# EAGLE library part 10POS-*MM-? (library con-wurth-board-header)
Wurth Elektronik WR-BHD Male Box Headers ;
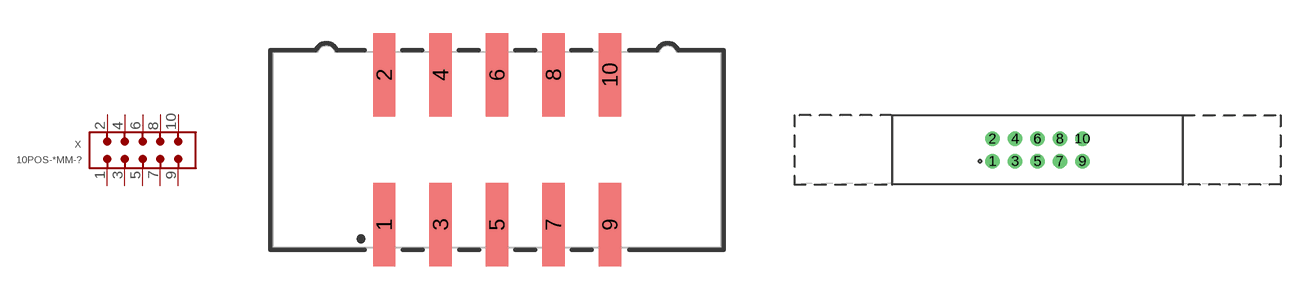
[diagram p220: symbol with the pads of 61201020621; footprints 61201020621, 62501022021]

Designator prefix X

## 10POS-2.54MM-61201020621 (CONTACT-RESISTANCE: 20mOhm; DATASHEET-URL: https://www.we-online.com/redexpert/spec/61201020621?ae; GENDER: Male; IR: 3A; LENGTH: 20.5mm; MOUNT: SMT; PACKAGING: Tube; PART-NUMBER: 61201020621; PINS: 10; PITCH: 2.54 mm; TYPE: Straight; VALUE: 61201020621; WORKING-VOLTAGE: 250V(AC))  [61201020621]
1  1  pas
2  2  pas
3  3  pas
4  4  pas
5  5  pas
6  6  pas
7  7  pas
8  8  pas
9  9  pas
10  10  pas

## 10POS-2.00MM-62501022021 (CONTACT-RESISTANCE: 20mOhm; DATASHEET-URL: https://www.we-online.com/redexpert/spec/62501022021?ae; GENDER: Male; IR: 2A; LENGTH: 25.7mm; MOUNT: THT; PACKAGING: Tray; PART-NUMBER: 62501022021; PINS: 10; PITCH: 2.00 mm; TYPE: Straight; VALUE: 62501022021; WORKING-VOLTAGE: 250V(AC))  [62501022021]
Pads as for 61201020621

## 10POS-1.27MM-62701021721 (CONTACT-RESISTANCE: 20mOhm; DATASHEET-URL: https://www.we-online.com/redexpert/spec/62701021721?ae; GENDER: Male; IR: 1A; LENGTH: 12.7mm; MOUNT: THT; PART-NUMBER: 62701021721; PINS: 10; PITCH: 1.27mm; TYPE: Angled; VALUE: 62701021721; WORKING-VOLTAGE: 50V(AC))  [62701021721]
Pads as for 61201020621

## 10POS-2.54MM-61201022323 (CONTACT-RESISTANCE: 20mOhm; DATASHEET-URL: https://www.we-online.com/redexpert/spec/61201022323?ae; GENDER: Transition; IR: 1A; LENGTH: 18.15mm; MOUNT: THT; PACKAGING: Tray; PART-NUMBER: 61201022323; PINS: 10; PITCH: 2.54 mm; TYPE: Straight; VALUE: 61201022323; WORKING-VOLTAGE: 250V(AC))  [61201022323]
Pads as for 61201020621

## 10POS-2.54MM-612010235121 (CONTACT-RESISTANCE: 20mOhm; DATASHEET-URL: https://www.we-online.com/redexpert/spec/612010235121?ae; GENDER: Male; IR: 3A; LENGTH: 20.3mm; MOUNT: THT; PACKAGING: Tray; PART-NUMBER: 612010235121; PINS: 10; PITCH: 2.54 mm; TYPE: Straight; VALUE: 612010235121; WORKING-VOLTAGE: 250V(AC))  [612010235121]
Pads as for 61201020621

## 10POS-2.54MM-61201022821 (CONTACT-RESISTANCE: 20mOhm; DATASHEET-URL: https://www.we-online.com/redexpert/spec/61201022821?ae; GENDER: Male; IR: 3A; LENGTH: 32.2mm; MOUNT: THT; PACKAGING: Tray; PART-NUMBER: 61201022821; PINS: 10; PITCH: 2.54 mm; TYPE: Straight; VALUE: 61201022821; WORKING-VOLTAGE: 250V(AC))  [61201022821]
Pads as for 61201020621

## 10POS-2.54MM-612010235221 (CONTACT-RESISTANCE: 20mOhm; DATASHEET-URL: https://www.we-online.com/redexpert/spec/612010235221?ae; GENDER: Male; IR: 3A; LENGTH: 20.3mm; MOUNT: THT; PACKAGING: Tray; PART-NUMBER: 612010235221; PINS: 10; PITCH: 2.54 mm; TYPE: Angled; VALUE: 612010235221; WORKING-VOLTAGE: 250V(AC))  [612010235221]
Pads as for 61201020621

## 10POS-2.00MM-62501022121 (CONTACT-RESISTANCE: 20mOhm; DATASHEET-URL: https://www.we-online.com/redexpert/spec/62501022121?ae; GENDER: Male; IR: 2A; LENGTH: 25.7 mm; MOUNT: THT; PACKAGING: Tray; PART-NUMBER: 62501022121; PINS: 10; PITCH: 2.00 mm; TYPE: Angled; VALUE: 62501022121; WORKING-VOLTAGE: 250V(AC))  [62501022121]
Pads as for 61201020621

## 10POS-2.54MM-61201022021 (CONTACT-RESISTANCE: 20mOhm; DATASHEET-URL: https://www.we-online.com/redexpert/spec/61201022021?ae; GENDER: Male; IR: 3A; LENGTH: 32.2mm; MOUNT: THT; PACKAGING: Tray; PART-NUMBER: 61201022021; PINS: 10; PITCH: 2.54 mm; TYPE: Straight; VALUE: 61201022021; WORKING-VOLTAGE: 250V(AC))  [61201022021]
Pads as for 61201020621

## 10POS-2.00MM-62501021621 (CONTACT-RESISTANCE: 20mOhm; DATASHEET-URL: https://www.we-online.com/redexpert/spec/62501021621?ae; GENDER: Male; IR: 2A; LENGTH: 17.2mm; MOUNT: THT; PACKAGING: Tray; PART-NUMBER: 62501021621; PINS: 10; PITCH: 2.00 mm; TYPE: Straight; VALUE: 62501021621; WORKING-VOLTAGE: 250V(AC))  [62501021621]
Pads as for 61201020621

## 10POS-2.54MM-61201022921 (CONTACT-RESISTANCE: 20mOhm; DATASHEET-URL: https://www.we-online.com/redexpert/spec/61201022921?ae; GENDER: Male; IR: 3A; LENGTH: 32.2mm; MOUNT: THT; PACKAGING: Tray; PART-NUMBER: 61201022921; PINS: 10; PITCH: 2.54 mm; TYPE: Angled; VALUE: 61201022921; WORKING-VOLTAGE: 250V(AC))  [61201022921]
Pads as for 61201020621

## 10POS-2.54MM-61201021621 (CONTACT-RESISTANCE: 20mOhm; DATASHEET-URL: https://www.we-online.com/redexpert/spec/61201021621?ae; GENDER: Male; IR: 3A; LENGTH: 20.36mm; MOUNT: THT; PACKAGING: Tray; PART-NUMBER: 61201021621; PINS: 10; PITCH: 2.54 mm; TYPE: Straight; VALUE: 61201021621; WORKING-VOLTAGE: 250V(AC))  [61201021621]
Pads as for 61201020621

## 10POS-1.27MM-62701021621 (CONTACT-RESISTANCE: 20mOhm; DATASHEET-URL: https://www.we-online.com/redexpert/spec/62701021621?ae; GENDER: Male; IR: 1A; LENGTH: 12.7mm; MOUNT: THT; PART-NUMBER: 62701021621; PINS: 10; PITCH: 1.27mm; TYPE: Straight; VALUE: 62701021621; WORKING-VOLTAGE: 50V(AC))  [62701021621]
Pads as for 61201020621

## 10POS-2.00MM-62501022323 (CONTACT-RESISTANCE: 20mOhm; DATASHEET-URL: https://www.we-online.com/redexpert/spec/62501022323?ae; GENDER: Transition; IR: 1A; LENGTH: 14.1mm; MOUNT: THT; PACKAGING: Tray; PART-NUMBER: 62501022323; PINS: 10; PITCH: 2.00 mm; TYPE: Straight; VALUE: 62501022323; WORKING-VOLTAGE: 250V(AC))  [62501022323]
Pads as for 61201020621

## 10POS-1.27MM-62701020621 (CONTACT-RESISTANCE: 20mOhm; DATASHEET-URL: https://www.we-online.com/redexpert/spec/62701020621?ae; GENDER: Male; IR: 1A; LENGTH: 12.7mm; MOUNT: SMT; PART-NUMBER: 62701020621; PINS: 10; PITCH: 1.27mm; TYPE: Straight; VALUE: 62701020621; WORKING-VOLTAGE: 50V(AC))  [62701020621]
Pads as for 61201020621

## 10POS-2.00MM-62501021721 (CONTACT-RESISTANCE: 20mOhm; DATASHEET-URL: https://www.we-online.com/redexpert/spec/62501021721?ae; GENDER: Male; IR: 2A; LENGTH: 17.25mm; MOUNT: THT; PACKAGING: Tray; PART-NUMBER: 62501021721; PINS: 10; PITCH: 2.00 mm; TYPE: Angled; VALUE: 62501021721; WORKING-VOLTAGE: 250V(AC))  [62501021721]
Pads as for 61201020621

## 10POS-2.54MM-61201022121 (CONTACT-RESISTANCE: 20mOhm; DATASHEET-URL: https://www.we-online.com/redexpert/spec/61201022121?ae; GENDER: Male; IR: 3A; LENGTH: 32.2mm; MOUNT: THT; PACKAGING: Tray; PART-NUMBER: 61201022121; PINS: 10; PITCH: 2.54 mm; TYPE: Angled; VALUE: 61201022121; WORKING-VOLTAGE: 250V(AC))  [61201022121]
Pads as for 61201020621

## 10POS-2.54MM-61201021721 (CONTACT-RESISTANCE: 20mOhm; DATASHEET-URL: https://www.we-online.com/redexpert/spec/61201021721?ae; GENDER: Male; IR: 3A; LENGTH: 25.44mm; MOUNT: THT; PACKAGING: Tray; PART-NUMBER: 61201021721; PINS: 10; PITCH: 2.54 mm; TYPE: Angled; VALUE: 61201021721; WORKING-VOLTAGE: 250V(AC))  [61201021721]
Pads as for 61201020621

## Footprint 61201020621 (pad centres in mm)
WR-BHD 2.54 mm Male SMT Box Header,10 pins
smd 1 x 3.75: 1 -5.08,-3.375; 2 -5.08,3.375; 3 -2.54,-3.375; 4 -2.54,3.375; 5 0,-3.375; 6 0,3.375; 7 2.54,-3.375; 8 2.54,3.375; 9 5.08,-3.375; 10 5.08,3.375

## Footprint 62501022021 (pad centres in mm)
WR-BHD 2.00 mm Male Box Header with Lever, 10 pins
drill 0.8: 1 -4,-1; 2 -4,1; 3 -2,-1; 4 -2,1; 5 0,-1; 6 0,1; 7 2,-1; 8 2,1; 9 4,-1; 10 4,1

## Footprint 62701021721 (pad centres in mm)
WR-BHD 1,27mm Male THT Box Header Right angle, 10Pins
drill 0.7 pad 1.05: 1 2.54,4.72; 2 2.54,3.45; 3 1.27,4.72; 4 1.27,3.45; 5 0,4.72; 6 0,3.45; 7 -1.27,4.72; 8 -1.27,3.45; 9 -2.54,4.72; 10 -2.54,3.45

## Footprint 61201022323 (pad centres in mm)
WR-BHD 2.54mm Board to Cable Transition Connector, 10 Pins
drill 1.02: 1 -5.08,-1.27; 2 -5.08,1.27; 3 -2.54,-1.27; 4 -2.54,1.27; 5 0,-1.27; 6 0,1.27; 7 2.54,-1.27; 8 2.54,1.27; 9 5.08,-1.27; 10 5.08,1.27

## Footprint 612010235121 (pad centres in mm)
WR-BHD 2.54 mm Male Box Header High Temperature, 10 Pins
drill 1.02: 1 -5.08,-1.27; 2 -5.08,1.27; 3 -2.54,-1.27; 4 -2.54,1.27; 5 0,-1.27; 6 0,1.27; 7 2.54,-1.27; 8 2.54,1.27; 9 5.08,-1.27; 10 5.08,1.27

## Footprint 61201022821 (pad centres in mm)
WR-BHD 2.54 mm Male Box Header with long lever, 10 Pins
drill 1.02: 1 -5.08,-1.27; 2 -5.08,1.27; 3 -2.54,-1.27; 4 -2.54,1.27; 5 0,-1.27; 6 0,1.27; 7 2.54,-1.27; 8 2.54,1.27; 9 5.08,-1.27; 10 5.08,1.27

## Footprint 612010235221 (pad centres in mm)
WR-BHD 2.54 mm Male Angled Box Header High Temperature,10 Pins
drill 1.02: 1 5.08,8.54; 2 5.08,6; 3 2.54,8.54; 4 2.54,6; 5 0,8.54; 6 0,6; 7 -2.54,8.54; 8 -2.54,6; 9 -5.08,8.54; 10 -5.08,6

## Footprint 62501022121 (pad centres in mm)
WR-BHD 2.00 mm Male Angled Box Header w. Lever, 10 pins
drill 0.8: 1 4,3.4; 2 4,1.4; 3 2,3.4; 4 2,1.4; 5 0,3.4; 6 0,1.4; 7 -2,3.4; 8 -2,1.4; 9 -4,3.4; 10 -4,1.4

## Footprint 61201022021 (pad centres in mm)
WR-BHD 2.54 mm Male Box Header with short lever,10 Pins
drill 1.02: 1 -5.08,-1.27; 2 -5.08,1.27; 3 -2.54,-1.27; 4 -2.54,1.27; 5 0,-1.27; 6 0,1.27; 7 2.54,-1.27; 8 2.54,1.27; 9 5.08,-1.27; 10 5.08,1.27

## Footprint 62501021621 (pad centres in mm)
WR-BHD 2.00 mm Male Box Headerr, 10 pins
drill 0.8: 1 -4,-1; 2 -4,1; 3 -2,-1; 4 -2,1; 5 0,-1; 6 0,1; 7 2,-1; 8 2,1; 9 4,-1; 10 4,1

## Footprint 61201022921 (pad centres in mm)
WR-BHD 2.54 mm Male Angled Box Header with long lever, 10 Pins
drill 1.02: 1 5.08,7.36; 2 5.08,4.82; 3 2.54,7.36; 4 2.54,4.82; 5 0,7.36; 6 0,4.82; 7 -2.54,7.36; 8 -2.54,4.82; 9 -5.08,7.36; 10 -5.08,4.82

## Footprint 61201021621 (pad centres in mm)
WR-BHD 2.54 mm Male Box Header, 10 Pins
drill 1.1: 1 -5.08,-1.27; 2 -5.08,1.27; 3 -2.54,-1.27; 4 -2.54,1.27; 5 0,-1.27; 6 0,1.27; 7 2.54,-1.27; 8 2.54,1.27; 9 5.08,-1.27; 10 5.08,1.27

## Footprint 62701021621 (pad centres in mm)
WR-BHD 1.27mm Male THT Box Header Straight, 10Pins
drill 0.7 pad 1.05: 1 -2.54,-0.635; 2 -2.54,0.635; 3 -1.27,-0.635; 4 -1.27,0.635; 5 0,-0.635; 6 0,0.635; 7 1.27,-0.635; 8 1.27,0.635; 9 2.54,-0.635; 10 2.54,0.635

## Footprint 62501022323 (pad centres in mm)
WR-BHD 2.00 mm Board to Cable Transition Connector, 10 pins
drill 1: 1 -4,-1; 2 -4,1; 3 -2,-1; 4 -2,1; 5 0,-1; 6 0,1; 7 2,-1; 8 2,1; 9 4,-1; 10 4,1

## Footprint 62701020621 (pad centres in mm)
WR-BHD 1.27 mm Male SMT Box Header Pitch: 1.27mm, 10pins, SMT
smd 0.65 x 2.76: 1 -2.54,-2.02; 2 -2.54,2.02; 3 -1.27,-2.02; 4 -1.27,2.02; 5 0,-2.02; 6 0,2.02; 7 1.27,-2.02; 8 1.27,2.02; 9 2.54,-2.02; 10 2.54,2.02

## Footprint 62501021721 (pad centres in mm)
WR-BHD 2.00 mm Male Angled Box Header,10 pins
drill 0.8: 1 4,5.55; 2 4,3.55; 3 2,5.55; 4 2,3.55; 5 0,5.55; 6 0,3.55; 7 -2,5.55; 8 -2,3.55; 9 -4,5.55; 10 -4,3.55

## Footprint 61201022121 (pad centres in mm)
WR-BHD 2.54 mm Male Angled Box Header with short lever,10 Pins
drill 1.02: 1 5.08,7.36; 2 5.08,4.82; 3 2.54,7.36; 4 2.54,4.82; 5 0,7.36; 6 0,4.82; 7 -2.54,7.36; 8 -2.54,4.82; 9 -5.08,7.36; 10 -5.08,4.82

## Footprint 61201021721 (pad centres in mm)
WR-BHD 2.54 mm Male Angled Box Header, 10 Pins
drill 1.1: 1 5.08,8.805; 2 5.08,6.265; 3 2.54,8.805; 4 2.54,6.265; 5 0,8.805; 6 0,6.265; 7 -2.54,8.805; 8 -2.54,6.265; 9 -5.08,8.805; 10 -5.08,6.265